# Altium footprint library pcb_checked.PcbLib: 89 footprints (part 5 of 6)
Each footprint in its own frame and in the unit in brackets; x right, y up, seen from the top. Pads: shape width x height; smd on the part's side, far side on the other; paste and mask are expansions set on the pad; w line width, h text height; cw(c..) or ccw(c..) is an arc to the next point about the centre after c.
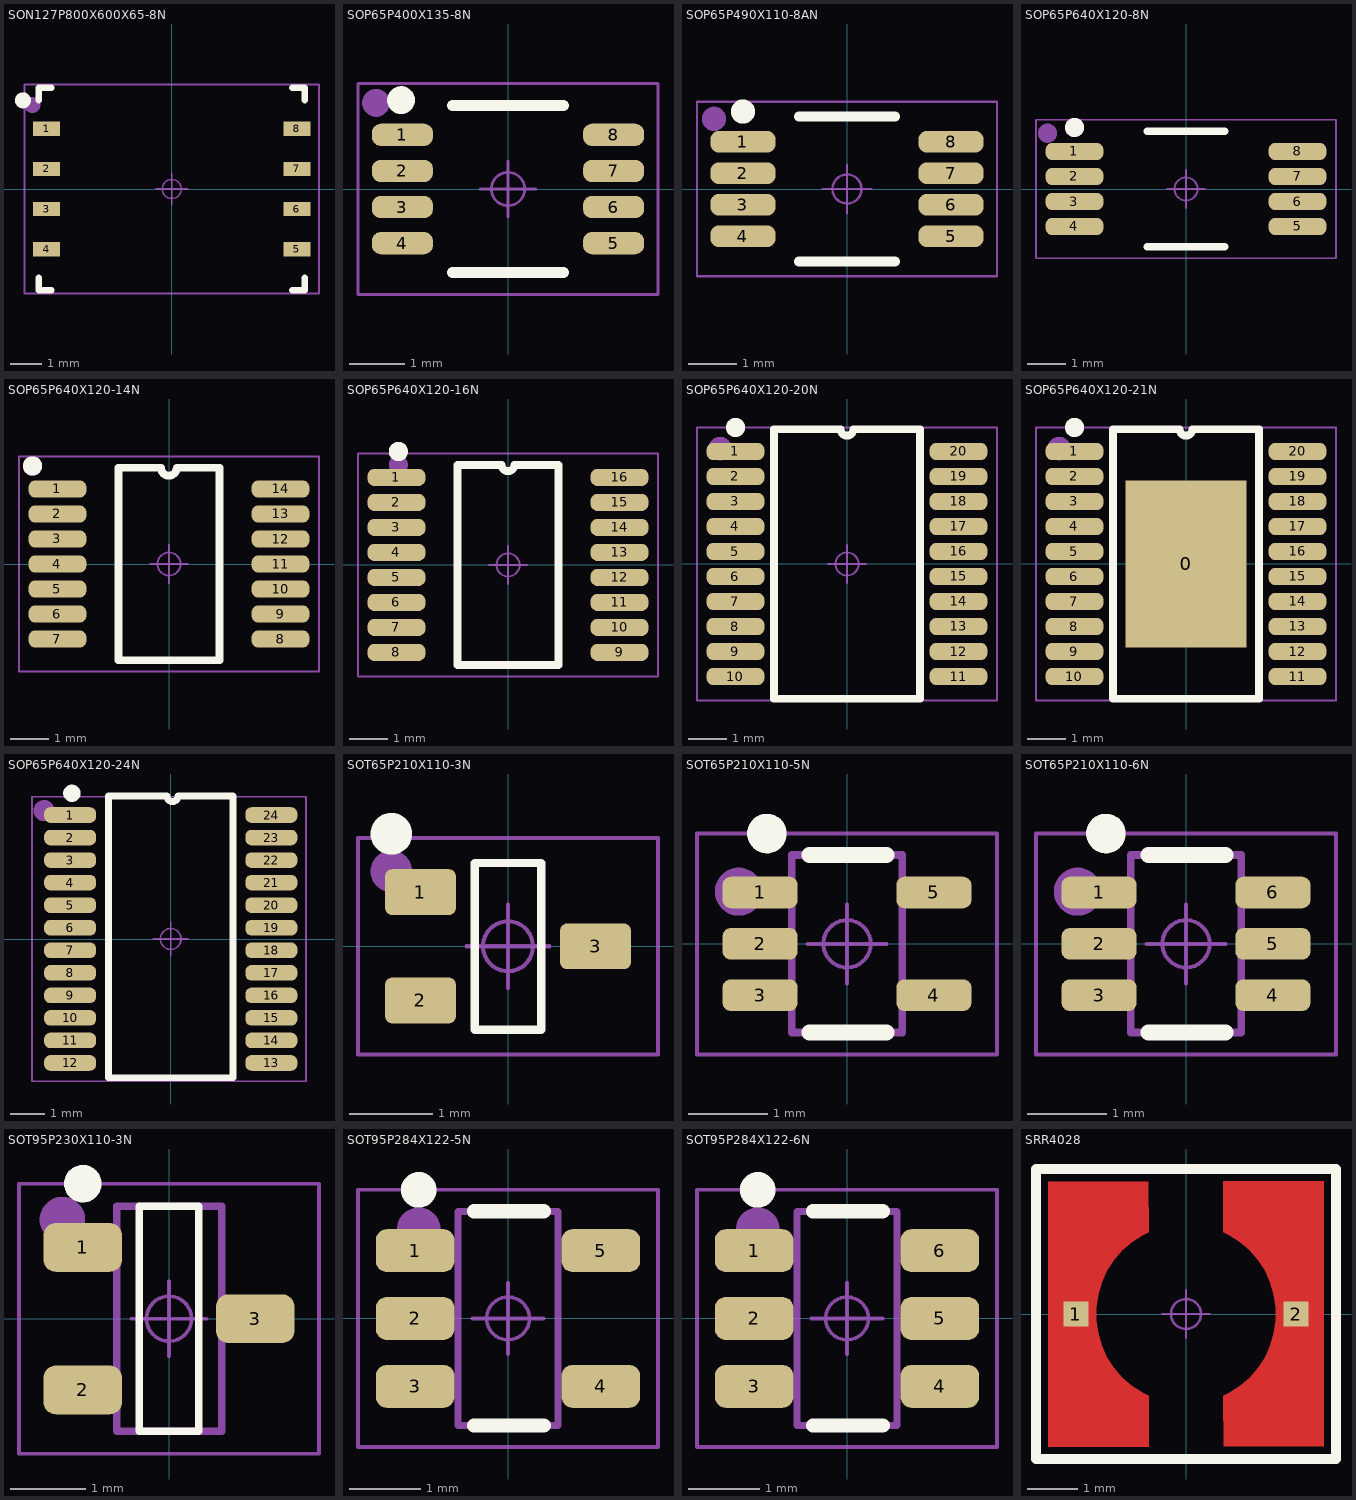
[diagram p4: the footprints below, top view; thin cyan lines are the x and y axes]

## SON127P800X600X65-8N [mm] "SON,1.27mm,pitch;8 pin,8.00mm W X 6.00mm L X 0.65mm H body"
height 0.65
pads (8):
  rect 0.85x0.45 smd: 1(-3.95,1.905) 2(-3.95,0.635) 3(-3.95,-0.635) 4(-3.95,-1.905) 5(3.95,-1.905) 6(3.95,-0.635) 7(3.95,0.635) 8(3.95,1.905)
Top Overlay:
  circle w0.25: c-4.7,2.8 r0.125
  lines w0.2: -4.2,-2.8 -4.2,-3.2 -3.8,-3.2 ; -4.2,2.8 -4.2,3.2 -3.8,3.2 ; 3.8,-3.2 4.2,-3.2 4.2,-2.8 ; 3.8,3.2 4.2,3.2 4.2,2.8
Mechanical 15:
  circle w0.25: c-4.4,2.65 r0.125
  circle w0.05: c0,0 r0.3
  lines w0.05: -0.5,0 0.5,0 ; 0,-0.5 0,0.5 ; -4.65,-3.3 -4.65,3.3 4.65,3.3 4.65,-3.3 -4.65,-3.3
  text ".Designator" at -4.55,-2.85 h1
3D body: height 0.65, standoff 0, extent -4,-3 4,3

## SOP65P400X135-8N [mm]
height 1.3
pads (8):
  rrect80% 1.1x0.4 smd: 1(-1.9,0.975) 2(-1.9,0.325) 3(-1.9,-0.325) 4(-1.9,-0.975) 5(1.9,-0.975) 6(1.9,-0.325) 7(1.9,0.325) 8(1.9,0.975)
Top Overlay:
  circle w0.25: c-1.925,1.6 r0.125
  lines w0.2: -1,-1.5 1,-1.5 ; -1,1.5 1,1.5
Mechanical 15:
  circle w0.25: c-2.375,1.55 r0.125
  circle w0.05: c0,0 r0.3
  lines w0.05: -0.5,0 0.5,0 ; 0,-0.5 0,0.5 ; -2.7,-1.9 2.7,-1.9 2.7,1.9 -2.7,1.9 -2.7,-1.9
  text ".Designator" at -2.55,-1.6 h1
3D body: height 1.35, standoff 0, extent -1.4,-1.5 1.4,1.5

## SOP65P490X110-8AN [mm] "SOP,0.65mm,pitch;8 pin,3.00mm W X 3.00mm L X 1.10mm H body"
height 1.1
pads (8):
  rrect80% 1.35x0.45 smd: 1(-2.15,0.975) 2(-2.15,0.325) 3(-2.15,-0.325) 4(-2.15,-0.975) 5(2.15,-0.975) 6(2.15,-0.325) 7(2.15,0.325) 8(2.15,0.975)
Top Overlay:
  circle w0.25: c-2.15,1.6 r0.125
  lines w0.2: -1,-1.5 1,-1.5 ; -1,1.5 1,1.5
Mechanical 15:
  circle w0.05: c0,0 r0.3
  circle w0.25: c-2.75,1.45 r0.125
  lines w0.05: -0.5,0 0.5,0 ; 0,-0.5 0,0.5 ; -3.1,-1.8 3.1,-1.8 3.1,1.8 -3.1,1.8 -3.1,-1.8
  text ".Designator" at -2.85,-1.6 h1
3D body: height 1.1, standoff 0, extent -1.5,-1.5 1.5,1.5

## SOP65P640X120-8N [mm] "SOP,0.65mm,pitch;8 pin,4.40mm W X 3.00mm L X 1.20mm H body"
height 1.2
pads (8):
  rrect80% 1.5x0.45 smd: 1(-2.9,0.975) 2(-2.9,0.325) 3(-2.9,-0.325) 4(-2.9,-0.975) 5(2.9,-0.975) 6(2.9,-0.325) 7(2.9,0.325) 8(2.9,0.975)
Top Overlay:
  circle w0.25: c-2.9,1.6 r0.125
  lines w0.2: -1,-1.5 1,-1.5 ; -1,1.5 1,1.5
Mechanical 15:
  circle w0.05: c0,0 r0.3
  circle w0.25: c-3.6,1.45 r0.125
  lines w0.05: -0.5,0 0.5,0 ; 0,-0.5 0,0.5 ; -3.9,-1.8 3.9,-1.8 3.9,1.8 -3.9,1.8 -3.9,-1.8
  text ".Designator" at -3.75,-1.6 h1
3D body: height 1.2, standoff 0, extent -2.2,-1.5 2.2,1.5

## SOP65P640X120-14N [mm]
height 1.2
pads (14):
  rrect80% 1.5x0.45 smd: 1(-2.9,1.95) 2(-2.9,1.3) 3(-2.9,0.65) 4(-2.9,0) 5(-2.9,-0.65) 6(-2.9,-1.3) 7(-2.9,-1.95) 8(2.9,-1.95) 9(2.9,-1.3) 10(2.9,-0.65) 11(2.9,0) 12(2.9,0.65) 13(2.9,1.3) 14(2.9,1.95)
Top Overlay:
  circle w0.25: c-3.55,2.55 r0.125
  lines w0.2: -0.263,2.5 -1.315,2.5 -1.315,-2.5 1.315,-2.5 1.315,2.5 0.263,2.5 ; -0.207,2.5 ccw(c-0.003,2.5) 0.2,2.5
Mechanical 15:
  circle w0.05: c0,0 r0.3
  circle w0.25: c-3.55,2.55 r0.125
  lines w0.05: -0.5,0 0.5,0 ; 0,-0.5 0,0.5 ; -3.9,-2.8 3.9,-2.8 3.9,2.8 -3.9,2.8 -3.9,-2.8
  text ".Designator" at -3.8,-2.65 h1
3D body: height 1.4, standoff 0, extent -2.5,-2.5 2.5,2.5

## SOP65P640X120-16N [mm] "SOP,0.65mm,pitch;16 pin,4.40mm W X 5.00mm L X 1.20mm H body"
height 1.2
pads (16):
  rrect80% 1.5x0.45 smd: 1(-2.9,2.275) 2(-2.9,1.625) 3(-2.9,0.975) 4(-2.9,0.325) 5(-2.9,-0.325) 6(-2.9,-0.975) 7(-2.9,-1.625) 8(-2.9,-2.275) 9(2.9,-2.275) 10(2.9,-1.625) 11(2.9,-0.975) 12(2.9,-0.325) 13(2.9,0.325) 14(2.9,0.975) 15(2.9,1.625) 16(2.9,2.275)
Top Overlay:
  circle w0.25: c-2.85,2.95 r0.125
  lines w0.2: -1.315,-2.6 1.315,-2.6 1.315,2.6 0.162,2.6 cw(c0,2.6) -0.162,2.6 -1.315,2.6 -1.315,-2.6
Mechanical 15:
  circle w0.25: c-2.85,2.6 r0.125
  circle w0.05: c0,0 r0.3
  lines w0.05: -0.5,0 0.5,0 ; 0,-0.5 0,0.5 ; -3.9,-2.9 3.9,-2.9 3.9,2.9 -3.9,2.9 -3.9,-2.9
  text ".Designator" at -3.8,-2.65 h1
3D body: height 1.2, standoff 0, extent -2.5,-2.6 2.5,2.6

## SOP65P640X120-20N [mm] "SOP,0.65mm,pitch;20 pin,4.40mm W X 6.40mm L X 1.20mm H body"
height 1.2
pads (20):
  rrect80% 1.5x0.45 smd: 1(-2.9,2.925) 2(-2.9,2.275) 3(-2.9,1.625) 4(-2.9,0.975) 5(-2.9,0.325) 6(-2.9,-0.325) 7(-2.9,-0.975) 8(-2.9,-1.625) 9(-2.9,-2.275) 10(-2.9,-2.925) 11(2.9,-2.925) 12(2.9,-2.275) 13(2.9,-1.625) 14(2.9,-0.975) 15(2.9,-0.325) 16(2.9,0.325) 17(2.9,0.975) 18(2.9,1.625) 19(2.9,2.275) 20(2.9,2.925)
Top Overlay:
  circle w0.25: c-2.9,3.55 r0.125
  lines w0.2: -1.9,-3.5 -1.9,3.5 -0.162,3.5 ccw(c0,3.5) 0.162,3.5 1.9,3.5 1.9,-3.5 -1.9,-3.5
Mechanical 15:
  circle w0.05: c0,0 r0.3
  circle w0.406: c-3.3,3 r0.1
  lines w0.05: -0.5,0 0.5,0 ; 0,-0.5 0,0.5 ; -3.9,-3.55 -3.9,3.55 3.9,3.55 3.9,-3.55 -3.9,-3.55
  text ".Designator" at -3.6,-3.2 h1
3D body: height 1.2, standoff 0, extent -2.5,-3.25 2.5,3.25

## SOP65P640X120-21N [mm]
height 1.2
pads (21):
  rect 3.15x4.35 smd paste-1000: 0(0,0)
  rrect80% 1.5x0.45 smd: 1(-2.9,2.925) 2(-2.9,2.275) 3(-2.9,1.625) 4(-2.9,0.975) 5(-2.9,0.325) 6(-2.9,-0.325) 7(-2.9,-0.975) 8(-2.9,-1.625) 9(-2.9,-2.275) 10(-2.9,-2.925) 11(2.9,-2.925) 12(2.9,-2.275) 13(2.9,-1.625) 14(2.9,-0.975) 15(2.9,-0.325) 16(2.9,0.325) 17(2.9,0.975) 18(2.9,1.625) 19(2.9,2.275) 20(2.9,2.925)
Top Overlay:
  circle w0.25: c-2.9,3.55 r0.125
  lines w0.2: -1.9,-3.5 1.9,-3.5 1.9,3.5 0.162,3.5 cw(c0,3.5) -0.162,3.5 -1.9,3.5 -1.9,-3.5
Top Paste:
  rectangle: -1.35,-1.95 -0.15,-0.8
  rectangle: 0.15,-1.95 1.35,-0.8
  rectangle: -1.35,-0.6 -0.15,0.65
  rectangle: 0.15,-0.6 1.35,0.65
  rectangle: 0.15,0.85 1.35,2
  rectangle: -1.35,0.85 -0.15,2
Mechanical 15:
  circle w0.406: c-3.3,3 r0.1
  circle w0.05: c0,0 r0.3
  lines w0.05: -0.5,0 0.5,0 ; 0,-0.5 0,0.5 ; -3.9,-3.55 3.9,-3.55 3.9,3.55 -3.9,3.55 -3.9,-3.55
  text ".Designator" at -3.6,-3.2 h1
3D body: height 1.2, standoff 0, extent -2.5,-3.25 2.5,3.25

## SOP65P640X120-24N [mm] "SOP,0.65mm,pitch;24 pin,4.40mm W X 7.80mm L X 1.20mm H body"
height 1.2
pads (24):
  rrect80% 1.5x0.45 smd: 1(-2.9,3.575) 2(-2.9,2.925) 3(-2.9,2.275) 4(-2.9,1.625) 5(-2.9,0.975) 6(-2.9,0.325) 7(-2.9,-0.325) 8(-2.9,-0.975) 9(-2.9,-1.625) 10(-2.9,-2.275) 11(-2.9,-2.925) 12(-2.9,-3.575) 13(2.9,-3.575) 14(2.9,-2.925) 15(2.9,-2.275) 16(2.9,-1.625) 17(2.9,-0.975) 18(2.9,-0.325) 19(2.9,0.325) 20(2.9,0.975) 21(2.9,1.625) 22(2.9,2.275) 23(2.9,2.925) 24(2.9,3.575)
Top Overlay:
  circle w0.25: c-2.85,4.2 r0.125
  lines w0.2: -1.8,-4 1.8,-4 1.8,4.125 0.213,4.125 cw(c0.05,4.125) -0.112,4.125 -1.8,4.125 -1.8,-4
Mechanical 15:
  circle w0.05: c0,0 r0.3
  circle w0.406: c-3.65,3.7 r0.1
  lines w0.05: -0.5,0 0.5,0 ; 0,-0.5 0,0.5 ; -4,-4.1 -4,4.1 3.9,4.1 3.9,-4.1 -4,-4.1
  text ".Designator" at -3.6,-3.2 h1
3D body: height 1.2, standoff 0, extent -2.2,-3.9 2.2,3.9

## SOT65P210X110-3N [mm] "SOT323, 0.65mm,pitch;3 pin,1.25mm W X 2.00mm L X 1.10mm H body"
height 1.1
pads (3):
  rrect30% 0.85x0.55 smd: 1(-1.05,0.65) 2(-1.05,-0.65) 3(1.05,0)
Top Overlay:
  circle w0.25: c-1.4,1.35 r0.125
  lines w0.1: -0.4,-1 0.4,-1 0.4,1 -0.4,1 -0.4,-1
Mechanical 15:
  circle w0.25: c-1.4,0.9 r0.125
  circle w0.05: c0,0 r0.3
  lines w0.05: -0.5,0 0.5,0 ; 0,-0.5 0,0.5 ; -1.8,-1.3 1.8,-1.3 1.8,1.3 -1.8,1.3 -1.8,-1.3
  text ".Designator" at -1.65,-1.1 h1
3D body: height 1.1, standoff 0, extent -0.625,-1 0.625,1

## SOT65P210X110-5N [mm] "SOT353, 0.65mm,pitch;5 pin,1.25mm W X 2.00mm L X 1.10mm H body"
height 1.1
pads (5):
  rrect50% 0.95x0.4 smd: 1(-1.1,0.65) 2(-1.1,0) 3(-1.1,-0.65) 4(1.1,-0.65) 5(1.1,0.65)
Top Overlay:
  circle w0.25: c-1.014,1.397 r0.125
  lines w0.2: -0.475,-1.125 0.5,-1.125 ; -0.475,1.125 0.5,1.125
Mechanical 13:
  lines w0.1: -0.7,-1.125 -0.7,1.125 0.7,1.125 0.7,-1.125 -0.7,-1.125
Mechanical 15:
  circle w0.406: c-1.37,0.66 r0.1
  circle w0.05: c0,0 r0.3
  lines w0.05: -0.5,0 0.5,0 ; 0,-0.5 0,0.5 ; -1.9,-1.4 -1.9,1.4 1.9,1.4 1.9,-1.4 -1.9,-1.4
  text ".Designator" at -1.7,-1.15 h1
3D body: height 1.1, standoff 0, extent -0.7,-1.125 0.7,1.125

## SOT65P210X110-6N [mm] "SOT353, 0.65mm,pitch;6 pin,1.25mm W X 2.00mm L X 1.10mm H body"
height 1.1
pads (6):
  rrect50% 0.95x0.4 smd: 1(-1.1,0.65) 2(-1.1,0) 3(-1.1,-0.65) 4(1.1,-0.65) 5(1.1,0) 6(1.1,0.65)
Top Overlay:
  circle w0.25: c-1.014,1.397 r0.125
  lines w0.2: -0.475,-1.125 0.5,-1.125 ; -0.475,1.125 0.5,1.125
Mechanical 13:
  lines w0.1: -0.7,-1.125 0.7,-1.125 0.7,1.125 -0.7,1.125 -0.7,-1.125
Mechanical 15:
  circle w0.05: c0,0 r0.3
  circle w0.406: c-1.37,0.66 r0.1
  lines w0.05: -0.5,0 0.5,0 ; 0,-0.5 0,0.5 ; -1.9,-1.4 1.9,-1.4 1.9,1.4 -1.9,1.4 -1.9,-1.4
  text ".Designator" at -1.7,-1.15 h1
3D body: height 1.1, standoff 0, extent -0.7,-1.125 0.7,1.125

## SOT95P230X110-3N [mm] "SOT23, 3-Leads, Body 2.9x1.3mm, Pitch 0.95mm, Lead Span 2.5mm, IPC Medium Density"
height 1.1
pads (3):
  rrect50% 1.05x0.65 smd: 1(-1.15,0.95) 2(-1.15,-0.95) 3(1.15,0)
Top Overlay:
  circle w0.25: c-1.15,1.8 r0.125
  lines w0.1: -0.4,-1.5 0.4,-1.5 0.4,1.5 -0.4,1.5 -0.4,-1.5
Mechanical 13:
  lines w0.1: -0.7,-1.5 0.7,-1.5 0.7,1.5 -0.7,1.5 -0.7,-1.5
Mechanical 15:
  circle w0.406: c-1.421,1.321 r0.1
  circle w0.05: c0,0 r0.3
  lines w0.05: -0.5,0 0.5,0 ; 0,-0.5 0,0.5 ; -2,-1.8 2,-1.8 2,1.8 -2,1.8 -2,-1.8
  text ".Designator" at -1.8,-1.55 h1
3D body: height 1.1, standoff 0, extent -0.7,-1.5 0.7,1.5

## SOT95P284X122-5N [mm] "SOT23, 5-Leads"
height 1.22
pads (5):
  rrect50% 1.1x0.6 smd: 1(-1.3,0.95) 2(-1.3,0) 3(-1.3,-0.95) 4(1.3,-0.95) 5(1.3,0.95)
Top Overlay:
  circle w0.25: c-1.25,1.8 r0.125
  lines w0.2: -0.475,-1.5 0.5,-1.5 ; -0.475,1.5 0.5,1.5
Mechanical 13:
  lines w0.1: -0.7,-1.5 -0.7,1.5 0.7,1.5 0.7,-1.5 -0.7,-1.5
Mechanical 15:
  circle w0.406: c-1.25,1.25 r0.1
  circle w0.05: c0,0 r0.3
  lines w0.05: -0.5,0 0.5,0 ; 0,-0.5 0,0.5 ; -2.1,-1.8 -2.1,1.8 2.1,1.8 2.1,-1.8 -2.1,-1.8
  text ".Designator" at -1.75,-1.55 h1
3D body: height 1.22, standoff 0, extent -0.7,-1.5 0.7,1.5

## SOT95P284X122-6N [mm] "SOT23, 6-Leads"
height 1.22
pads (6):
  rrect50% 1.1x0.6 smd: 1(-1.3,0.95) 2(-1.3,0) 3(-1.3,-0.95) 4(1.3,-0.95) 5(1.3,0) 6(1.3,0.95)
Top Overlay:
  circle w0.25: c-1.25,1.8 r0.125
  lines w0.2: -0.475,-1.5 0.5,-1.5 ; -0.475,1.5 0.5,1.5
Mechanical 13:
  lines w0.1: -0.7,-1.5 0.7,-1.5 0.7,1.5 -0.7,1.5 -0.7,-1.5
Mechanical 15:
  circle w0.406: c-1.25,1.25 r0.1
  circle w0.05: c0,0 r0.3
  lines w0.05: -0.5,0 0.5,0 ; 0,-0.5 0,0.5 ; -2.1,-1.8 2.1,-1.8 2.1,1.8 -2.1,1.8 -2.1,-1.8
  text ".Designator" at -1.75,-1.55 h1
3D body: height 1.22, standoff 0, extent -0.7,-1.5 0.7,1.5

## SRR4028 [mm] "SRR4028"
height 3
pads (2):
  rect 0.5x0.5 smd: 1(-2.2,0) 2(2.2,0)
Top Layer:
  region: -2.75,2.65 -0.75,2.65 -0.75,1.636 -0.865,1.579 -1.08,1.44 -1.274,1.272 -1.442,1.078 -1.58,0.862 -1.687,0.628 -1.759,0.382 -1.795,0.128 -1.8,0 -1.795,-0.128 -1.759,-0.382 -1.687,-0.628 -1.58,-0.862 -1.442,-1.078 -1.274,-1.272 -1.08,-1.44 -0.865,-1.579 -0.75,-1.636 -0.75,-2.65 -2.75,-2.65
  region: 2.75,-2.65 0.75,-2.65 0.75,-1.636 0.865,-1.579 1.08,-1.44 1.274,-1.272 1.442,-1.078 1.58,-0.862 1.687,-0.628 1.759,-0.382 1.795,-0.128 1.8,0 1.795,0.128 1.759,0.382 1.687,0.628 1.58,0.862 1.442,1.078 1.274,1.272 1.08,1.44 0.865,1.579 0.75,1.636 0.75,2.65 2.75,2.65
Top Overlay:
  lines w0.2: -3,-2.9 3,-2.9 3,2.9 -3,2.9 -3,-2.9
Mechanical 15:
  circle w0.05: c0,0 r0.3
  lines w0.05: -0.475,0 0.475,0 ; 0,-0.475 0,0.475 ; -3,-2.9 -3,2.9 3,2.9 3,-2.9 -3,-2.9
  text ".Designator" at -2.8,-2.7 h1
3D body: height 3, standoff 0, extent -2.4,-2.4 2.4,2.4